# Altium schematic symbol library MP1584A.SchLib: 1 symbol
Pins are listed as number, name and electrical type; pins without a type are passive.

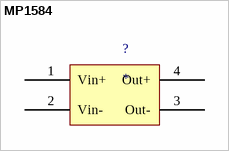
[diagram p0: symbol MP1584]

## MP1584
designator ?
footprint MP1584
pins: 1 Vin+, 2 Vin-, 3 Out-, 4 Out+